# Altium footprint library 1.3D-20.PcbLib: 1 footprints
Each footprint in its own frame and in the unit in brackets; x right, y up, seen from the top. Pads: shape width x height; smd on the part's side, far side on the other; paste and mask are expansions set on the pad; w line width, h text height; cw(c..) or ccw(c..) is an arc to the next point about the centre after c.
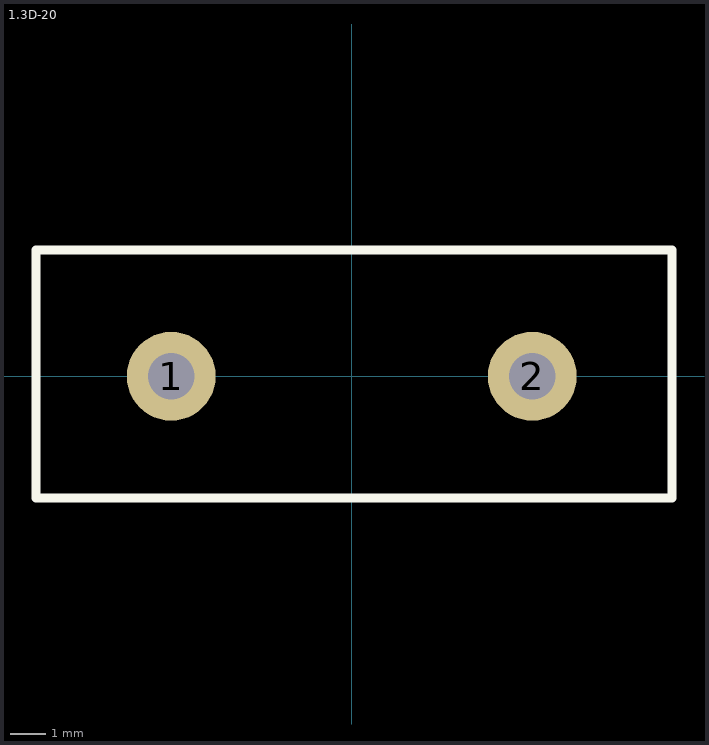
[diagram p0: the footprint, top view; thin cyan lines are the x and y axes]

## 1.3D-20 [mm]
pads (2):
  round 2.5 hole 1.3: 1(-5.08,0) 2(5.08,0)
Top Overlay:
  lines w0.254: -8.89,-3.429 9.017,-3.429 9.017,3.556 -8.89,3.556 -8.89,-3.429
3D body "Термистор 1.3D-20.STEP": height 26.24, standoff -2.25, extent -11.25,-3.5 11.25,3.5